# Altium footprint library Other.PcbLib: 47 footprints (part 2 of 3)
Each footprint in its own frame and in the unit in brackets; x right, y up, seen from the top. Pads: shape width x height; smd on the part's side, far side on the other; paste and mask are expansions set on the pad; w line width, h text height; cw(c..) or ccw(c..) is an arc to the next point about the centre after c.
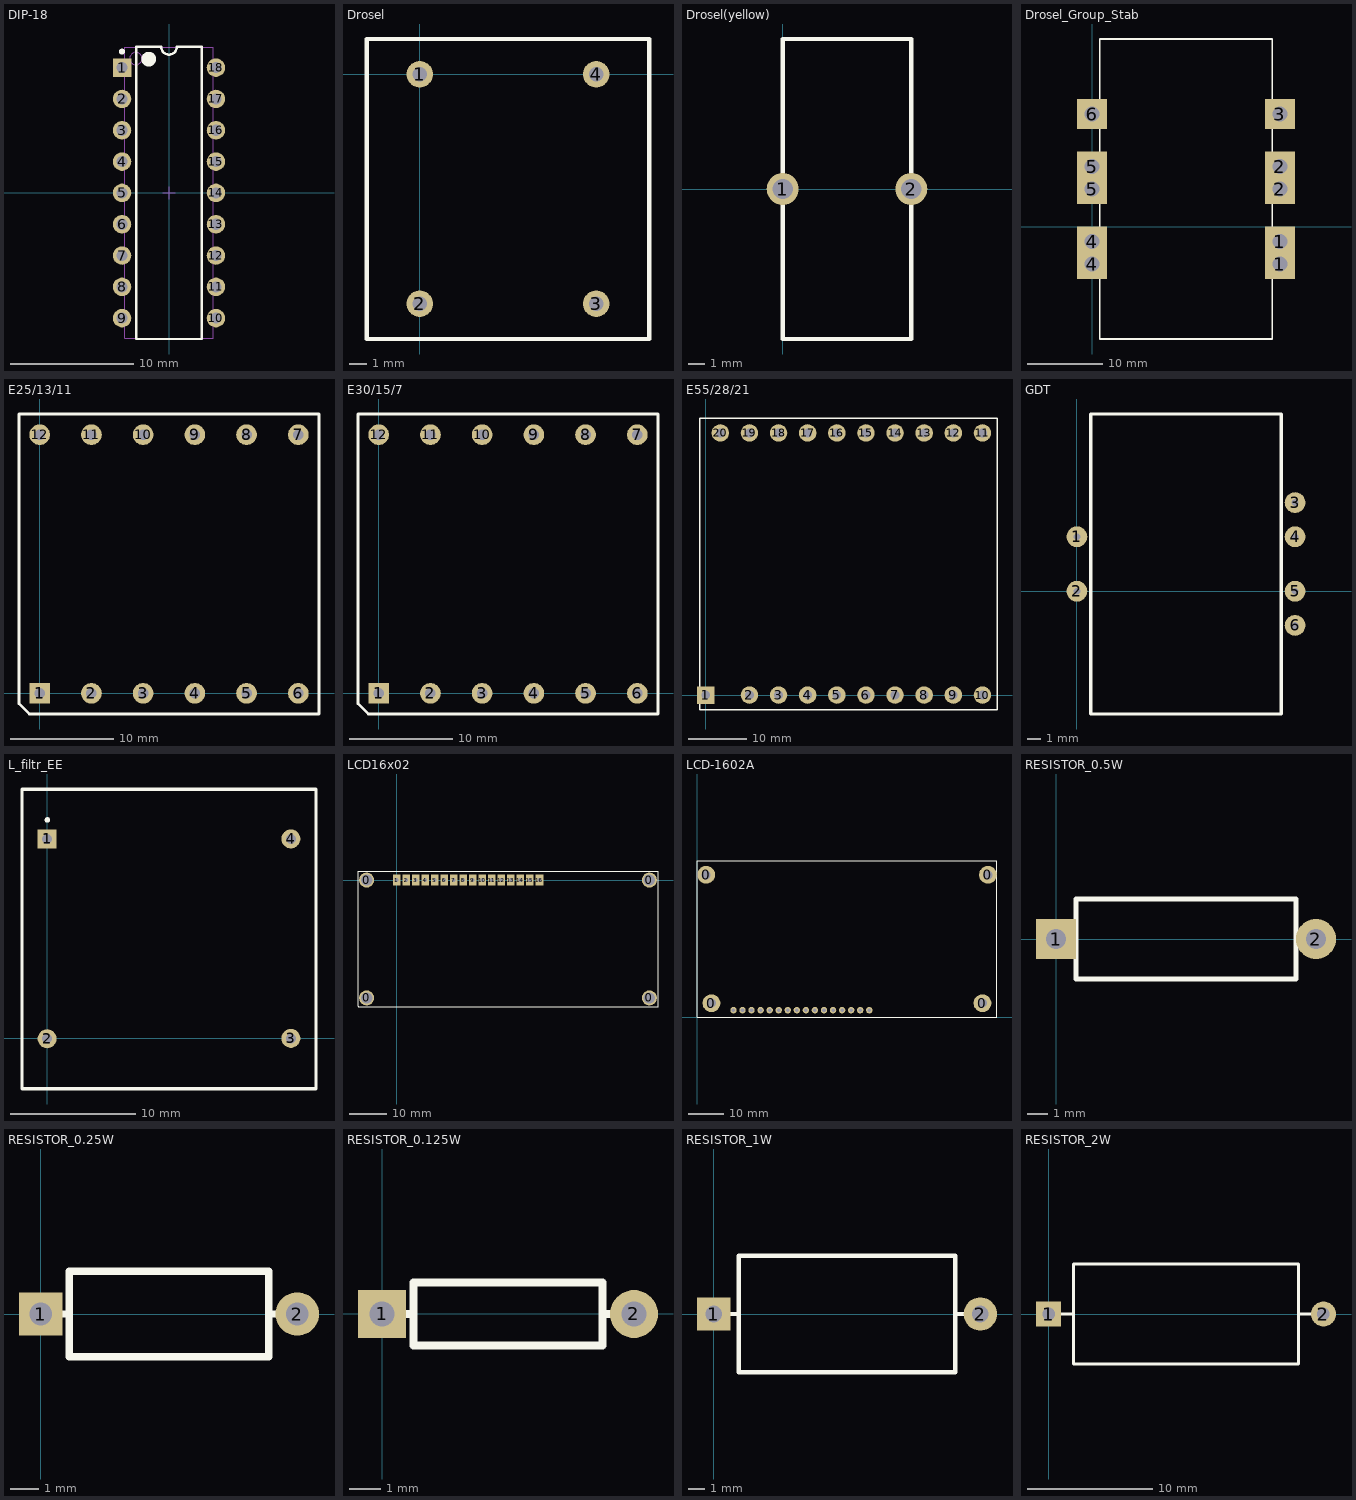
[diagram p1: the footprints below, top view; thin cyan lines are the x and y axes]

## DIP-18 [mm] "DIP; 18 Leads; Row Spacing 7.62 mm; Pitch 2.54 mm"
height 5.08
pads (18):
  rect 1.5x1.5 hole 0.9: 1(-3.81,10.16)
  round 1.5 hole 0.9: 2(-3.81,7.62) 3(-3.81,5.08) 4(-3.81,2.54) 5(-3.81,0) 6(-3.81,-2.54) 7(-3.81,-5.08) 8(-3.81,-7.62) 9(-3.81,-10.16) 10(3.81,-10.16) 11(3.81,-7.62) 12(3.81,-5.08) 13(3.81,-2.54) 14(3.81,0) 15(3.81,2.54) 16(3.81,5.08) 17(3.81,7.62) 18(3.81,10.16)
Top Overlay:
  circle w0.6: c-1.65,10.85 r0.3
  circle w0.25: c-3.81,11.46 r0.125
  lines w0.2: -2.65,-11.85 2.65,-11.85 2.65,11.85 0.635,11.85 cw(c0,11.85) -0.635,11.85 -2.65,11.85 -2.65,-11.85
Mechanical 13:
  circle w0.1: c-2.7,10.9 r0.5
  lines w0.1: -3.6,-11.8 3.6,-11.8 3.6,11.8 -3.6,11.8 -3.6,-11.8
Mechanical 15:
  lines w0.1: -0.5,0 0.5,0 ; 0,-0.5 0,0.5
3D body: height 5.08, standoff 0, extent -3.6,-11.8 3.6,11.8

## Drosel [mm]
height 15
pads (4):
  round 1.5 hole 0.8: 1(0,0) 2(0,-13) 3(10,-13) 4(10,0)
Top Overlay:
  lines w0.254: -3,-15 13,-15 13,2 -3,2 -3,-15

## Drosel(yellow) [mm]
height 25
pads (2):
  round 1.9 hole 1.2: 1(0,0) 2(7.62,0)
Top Overlay:
  lines w0.254: 0,-8.89 7.62,-8.89 7.62,8.89 0,8.89 0,-8.89
3D body: height 15.98, standoff 0.02, extent 0,-7.968 7.62,7.968

## Drosel_Group_Stab [mm]
height 50
pads (10):
  rect 4x4 hole 2: 1(25,-5) 1(25,-2) 2(25,5) 2(25,8) 3(25,15) 4(0,-5) 4(0,-2) 5(0,5) 5(0,8) 6(0,15)
Top Overlay:
  lines w0.254: 1,-15 24,-15 24,5 24,11 24,25 1,25 1,-15

## E25/13/11 [mm]
height 40
pads (12):
  rect 2x2 hole 1: 1(0,0)
  round 2 hole 1: 2(5,0) 3(10,0) 4(15,0) 5(20,0) 6(25,0) 7(25,25) 8(20,25) 9(15,25) 10(10,25) 11(5,25) 12(0,25)
Top Overlay:
  lines w0.254: -2,-1 -1,-2 ; -2,-1 -1,-2 ; -2,-1 -2,27 27,27 27,-2 -1,-2

## E30/15/7 [mm]
height 22
pads (12):
  rect 2x2 hole 1: 1(0,0)
  round 2 hole 1: 2(5,0) 3(10,0) 4(15,0) 5(20,0) 6(25,0) 7(25,25) 8(20,25) 9(15,25) 10(10,25) 11(5,25) 12(0,25)
Top Overlay:
  lines w0.254: -2,-1 -2,27 27,27 27,-2 -1,-2 -2,-1

## E55/28/21 [mm]
height 70
pads (20):
  rect 3x3 hole 1.5: 1(0,0)
  round 3 hole 1.5: 2(7.5,0) 3(12.5,0) 4(17.5,0) 5(22.5,0) 6(27.5,0) 7(32.5,0) 8(37.5,0) 9(42.5,0) 10(47.5,0) 11(47.5,45) 12(42.5,45) 13(37.5,45) 14(32.5,45) 15(27.5,45) 16(22.5,45) 17(17.5,45) 18(12.5,45) 19(7.5,45) 20(2.5,45)
Top Overlay:
  lines w0.254: -1,-2.5 -1,0 -1,45 -1,47.5 50,47.5 50,-2.5 -1,-2.5

## GDT [mm]
height 30
pads (6):
  round 1.524 hole 0.5: 1(0,4) 2(0,0) 3(16,6.5) 4(16,4) 5(16,0) 6(16,-2.5)
Top Overlay:
  lines w0.254: 1,-9 15,-9 15,13 1,13 1,-9

## L_filtr_EE [mm]
height 30
pads (4):
  rect 1.524x1.524 hole 0.8: 1(-0.025,15.975)
  round 1.524 hole 0.8: 2(-0.025,-0.025) 3(19.5,0) 4(19.5,15.975)
Top Overlay:
  circle w0.254: c0,17.5 r0.1
  lines w0.254: -0.025,-0.025 0,0 ; -2.025,-4.025 -2.025,19.975 -2,19.95 21.5,19.95 21.5,15.975 21.5,12.875 21.5,-4.05 21.475,-4.025 -0.025,-4.025 -2.025,-4.025

## LCD16x02 [mm]
height 5
pads (20):
  round 4 hole 3: 0(-8,-31.4) 0(-8,0) 0(67.4,-31.4) 0(67.4,0)
  rect 2x3 hole 1: 1(0,0) 2(2.54,0) 3(5.08,0) 4(7.62,0) 5(10.16,0) 6(12.7,0) 7(15.24,0) 8(17.78,0) 9(20.32,0) 10(22.86,0) 11(25.4,0) 12(27.94,0) 13(30.48,0) 14(33.02,0) 15(35.56,0) 16(38.1,0)
Top Overlay:
  lines w0.254: -10.3,-33.6 -10.2,-33.7 69.7,-33.7 69.7,2.3 -10.3,2.3 -10.3,0 -10.3,-33.6

## LCD-1602A [mm]
height 10
pads (20):
  round 5 hole 2.5: 0(2.525,40) 0(4,4) 0(80,4) 0(81.525,40)
  round 1.8 hole 1: 1(43.18,2.032) 2(40.64,2.032) 3(38.1,2.032) 4(35.56,2.032) 5(33.02,2.032) 6(30.48,2.032) 7(27.94,2.032) 8(25.4,2.032) 9(22.86,2.032) 10(20.32,2.032) 11(17.78,2.032) 12(15.24,2.032) 13(12.715,2.025) 14(10.175,2.025) 15(48.26,2.032) 16(45.72,2.032)
Top Overlay:
  lines w0.3: 2.525,40 4,40 ; 84,43.975 84,0 0,0 0,44 84,44
Multi-Layer:
  rectangle: -0.05,37.5 2.55,42.475
  rectangle: 81.4,37.5 84.075,42.475
  rectangle: 9.275,0.075 11.075,2.05
  rectangle: 14.355,0.075 16.155,2.05
  rectangle: 16.895,0.075 18.695,2.05
  rectangle: 19.435,0.075 21.235,2.05
  rectangle: 21.975,0.075 23.775,2.05
  rectangle: 24.515,0.075 26.315,2.05
  rectangle: 27.055,0.075 28.855,2.05
  rectangle: 29.595,0.075 31.395,2.05
  rectangle: 32.135,0.075 33.935,2.05
  rectangle: 34.675,0.075 36.475,2.05
  rectangle: 37.215,0.075 39.015,2.05
  rectangle: 39.755,0.075 41.555,2.05
  rectangle: 42.295,0.075 44.095,2.05
  rectangle: 44.835,0.075 46.635,2.05
  rectangle: 47.375,0.075 49.175,2.05
  rectangle: 14.355,0.075 16.155,2.05
  rectangle: 16.895,0.075 18.695,2.05
  rectangle: 19.435,0.075 21.235,2.05
  rectangle: 21.975,0.075 23.775,2.05
  rectangle: 24.515,0.075 26.315,2.05
  rectangle: 27.055,0.075 28.855,2.05
  rectangle: 29.595,0.075 31.395,2.05
  rectangle: 32.135,0.075 33.935,2.05
  rectangle: 34.675,0.075 36.475,2.05
  rectangle: 37.215,0.075 39.015,2.05
  rectangle: 39.755,0.075 41.555,2.05
  rectangle: 42.295,0.075 44.095,2.05
  rectangle: 44.835,0.075 46.635,2.05
  rectangle: 47.375,0.075 49.175,2.05
  rectangle: 14.355,0.075 16.155,2.05
  rectangle: 16.895,0.075 18.695,2.05
  rectangle: 19.435,0.075 21.235,2.05
  rectangle: 21.975,0.075 23.775,2.05
  rectangle: 24.515,0.075 26.315,2.05
  rectangle: 27.055,0.075 28.855,2.05
  rectangle: 29.595,0.075 31.395,2.05
  rectangle: 32.135,0.075 33.935,2.05
  rectangle: 34.675,0.075 36.475,2.05
  rectangle: 37.215,0.075 39.015,2.05
  rectangle: 39.755,0.075 41.555,2.05
  rectangle: 42.295,0.075 44.095,2.05
  rectangle: 44.835,0.075 46.635,2.05
  rectangle: 47.375,0.075 49.175,2.05
  rectangle: 11.815,0.075 13.615,2.05

## RESISTOR_0.5W [mm]
height 2
pads (2):
  rect 2x2 hole 1: 1(0,0)
  round 2 hole 1: 2(13,0)
Top Overlay:
  lines w0.254: 0,0 1,0 ; 12,0 13,0 ; 1,0 1,2 12,2 12,-2 1,-2 1,0

## RESISTOR_0.25W [mil]
height 78.74
pads (2):
  rect 60x60 hole 31.5: 1(0,0)
  round 60 hole 31.5: 2(354.33,0)
Top Overlay:
  lines w10: 0,0 39.37,0 ; 314.96,0 354.33,0 ; 39.37,0 39.37,59.06 314.96,59.06 314.96,-59.06 39.37,-59.06 39.37,0

## RESISTOR_0.125W [mil]
height 78.74
pads (2):
  rect 60x60 hole 31.5: 1(0,0)
  round 60 hole 31.5: 2(314.96,0)
Top Overlay:
  lines w10: 0,0 39.37,0 ; 275.59,0 314.96,0 ; 39.37,-39.37 275.59,-39.37 275.59,39.37 39.37,39.37 39.37,0 ; 39.37,-39.37 39.37,0 ; 39.37,-39.37 39.37,-39.37

## RESISTOR_1W [mm]
height 1
pads (2):
  rect 2x2 hole 1: 1(0,0)
  round 2 hole 1: 2(16,0)
Top Overlay:
  lines w0.254: 0,0 1.5,0 ; 14.5,0 16,0 ; 1.5,0 1.5,3.5 14.5,3.5 14.5,-3.5 1.5,-3.5 1.5,0

## RESISTOR_2W [mm]
height 5
pads (2):
  rect 2x2 hole 1: 1(0,0)
  round 2 hole 1: 2(22,0)
Top Overlay:
  lines w0.254: 0,0 2,0 ; 22,0 20,0 ; 20,0 20,4 2,4 2,-4 20,-4 20,0